# Altium footprint library Connector_Samtec_HSEC8.PcbLib: 133 footprints (part 8 of 9)
Each footprint in its own frame and in the unit in brackets; x right, y up, seen from the top. Pads: shape width x height; smd on the part's side, far side on the other; paste and mask are expansions set on the pad; w line width, h text height; cw(c..) or ccw(c..) is an arc to the next point about the centre after c.
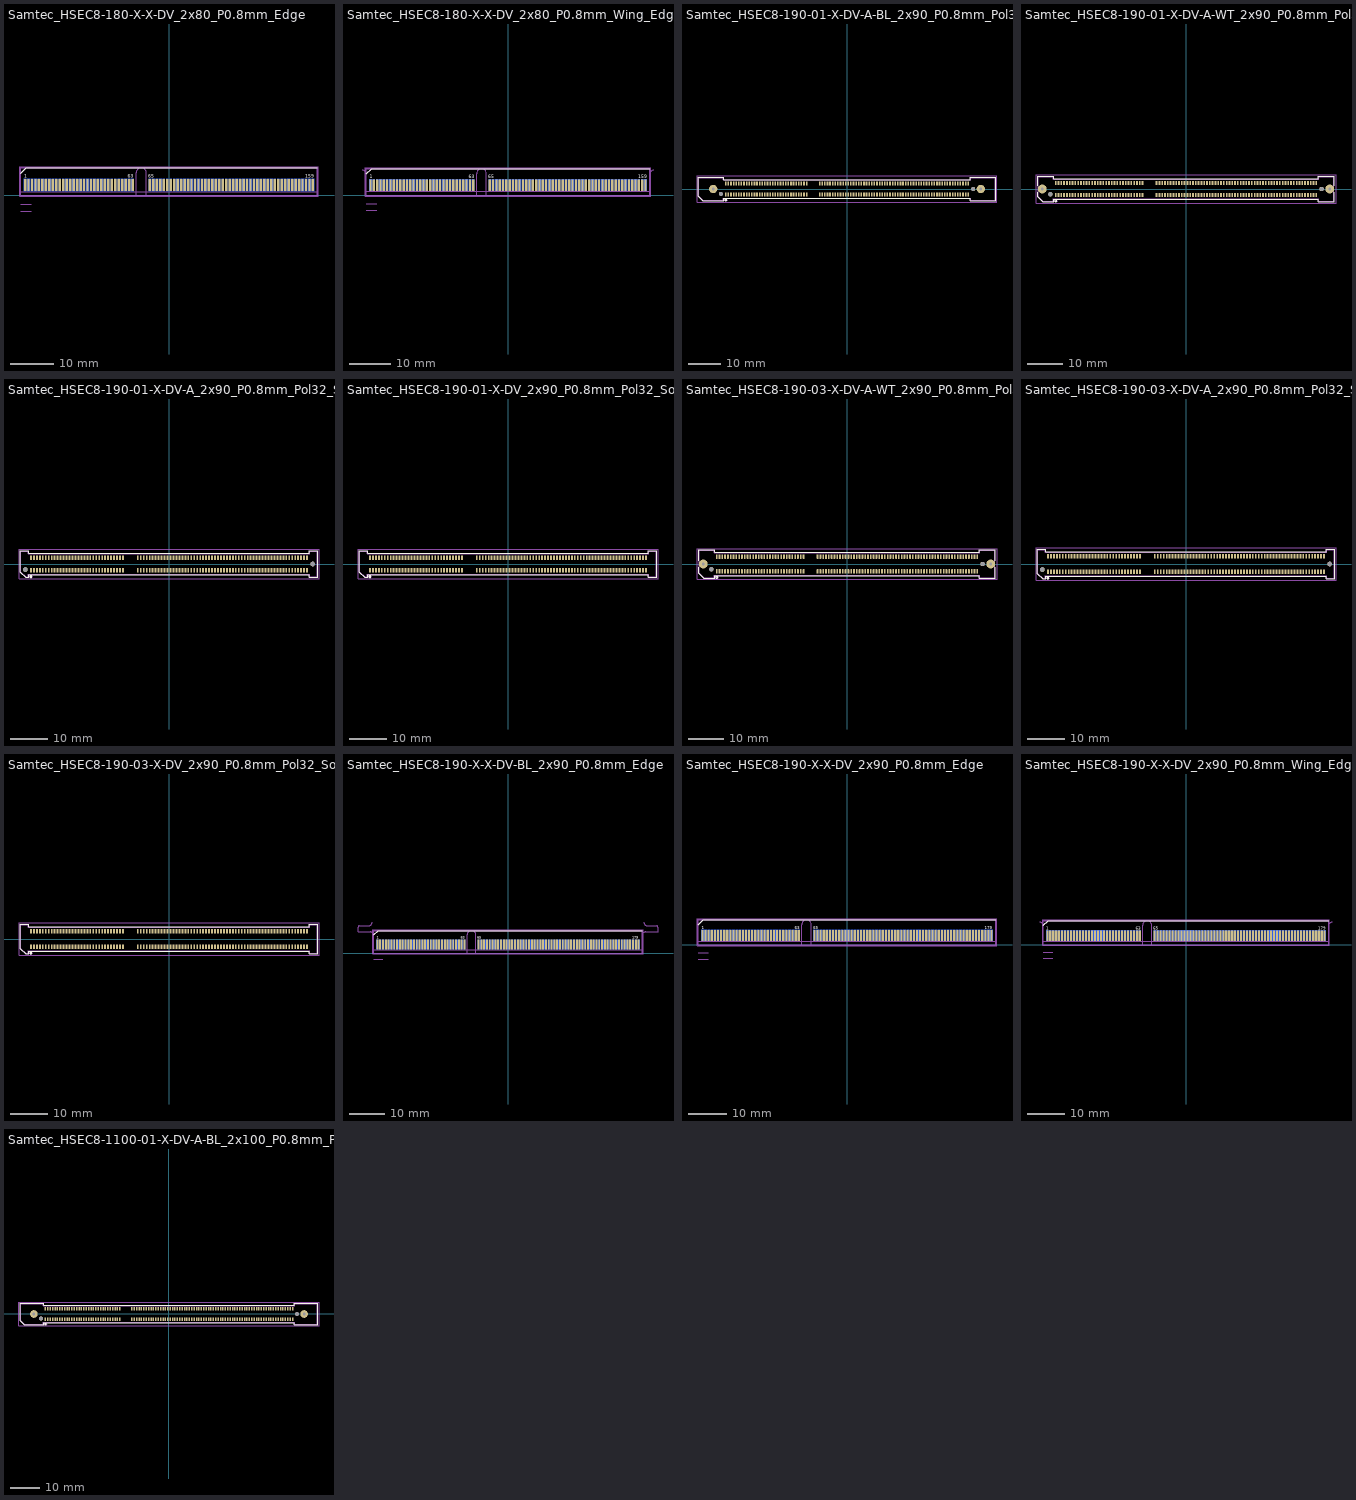
[diagram p7: the footprints below, top view; thin cyan lines are the x and y axes]

## Samtec_HSEC8-180-X-X-DV_2x80_P0.8mm_Edge [mm]
pads (160):
  rect 0.55x2.8 smd: 1(-33.2,2.4) 3(-32.4,2.4) 5(-31.6,2.4) 7(-30.8,2.4) 9(-30,2.4) 11(-29.2,2.4) 13(-28.4,2.4) 15(-27.6,2.4) 17(-26.8,2.4) 19(-26,2.4) 21(-25.2,2.4) 23(-24.4,2.4) 25(-23.6,2.4) 27(-22.8,2.4) 29(-22,2.4) 31(-21.2,2.4) 33(-20.4,2.4) 35(-19.6,2.4) 37(-18.8,2.4) 39(-18,2.4) 41(-17.2,2.4) 43(-16.4,2.4) 45(-15.6,2.4) 47(-14.8,2.4) 49(-14,2.4) 51(-13.2,2.4) 53(-12.4,2.4) 55(-11.6,2.4) 57(-10.8,2.4) 59(-10,2.4) 61(-9.2,2.4) 63(-8.4,2.4) 65(-4.4,2.4) 67(-3.6,2.4) 69(-2.8,2.4) 71(-2,2.4) 73(-1.2,2.4) 75(-0.4,2.4) 77(0.4,2.4) 79(1.2,2.4) 81(2,2.4) 83(2.8,2.4) 85(3.6,2.4) 87(4.4,2.4) 89(5.2,2.4) 91(6,2.4) 93(6.8,2.4) 95(7.6,2.4) 97(8.4,2.4) 99(9.2,2.4) 101(10,2.4) 103(10.8,2.4) 105(11.6,2.4) 107(12.4,2.4) 109(13.2,2.4) 111(14,2.4) 113(14.8,2.4) 115(15.6,2.4) 117(16.4,2.4) 119(17.2,2.4) 121(18,2.4) 123(18.8,2.4) 125(19.6,2.4) 127(20.4,2.4) 129(21.2,2.4) 131(22,2.4) 133(22.8,2.4) 135(23.6,2.4) 137(24.4,2.4) 139(25.2,2.4) 141(26,2.4) 143(26.8,2.4) 145(27.6,2.4) 147(28.4,2.4) 149(29.2,2.4) 151(30,2.4) 153(30.8,2.4) 155(31.6,2.4) 157(32.4,2.4) 159(33.2,2.4)
  rect 0.55x2.8 smd far side: 2(-33.2,2.4) 4(-32.4,2.4) 6(-31.6,2.4) 8(-30.8,2.4) 10(-30,2.4) 12(-29.2,2.4) 14(-28.4,2.4) 16(-27.6,2.4) 18(-26.8,2.4) 20(-26,2.4) 22(-25.2,2.4) 24(-24.4,2.4) 26(-23.6,2.4) 28(-22.8,2.4) 30(-22,2.4) 32(-21.2,2.4) 34(-20.4,2.4) 36(-19.6,2.4) 38(-18.8,2.4) 40(-18,2.4) 42(-17.2,2.4) 44(-16.4,2.4) 46(-15.6,2.4) 48(-14.8,2.4) 50(-14,2.4) 52(-13.2,2.4) 54(-12.4,2.4) 56(-11.6,2.4) 58(-10.8,2.4) 60(-10,2.4) 62(-9.2,2.4) 64(-8.4,2.4) 66(-4.4,2.4) 68(-3.6,2.4) 70(-2.8,2.4) 72(-2,2.4) 74(-1.2,2.4) 76(-0.4,2.4) 78(0.4,2.4) 80(1.2,2.4) 82(2,2.4) 84(2.8,2.4) 86(3.6,2.4) 88(4.4,2.4) 90(5.2,2.4) 92(6,2.4) 94(6.8,2.4) 96(7.6,2.4) 98(8.4,2.4) 100(9.2,2.4) 102(10,2.4) 104(10.8,2.4) 106(11.6,2.4) 108(12.4,2.4) 110(13.2,2.4) 112(14,2.4) 114(14.8,2.4) 116(15.6,2.4) 118(16.4,2.4) 120(17.2,2.4) 122(18,2.4) 124(18.8,2.4) 126(19.6,2.4) 128(20.4,2.4) 130(21.2,2.4) 132(22,2.4) 134(22.8,2.4) 136(23.6,2.4) 138(24.4,2.4) 140(25.2,2.4) 142(26,2.4) 144(26.8,2.4) 146(27.6,2.4) 148(28.4,2.4) 150(29.2,2.4) 152(30,2.4) 154(30.8,2.4) 156(31.6,2.4) 158(32.4,2.4) 160(33.2,2.4)
F.SilkS:
  lines w0.254: -34.225,5.13 -32.955,6.4 34.225,6.4
  text "159" at 31.459,4.025 h0.75
  text "65" at -4.739,4.025 h0.75
  text "63" at -9.489,4.025 h0.75
  text "1" at -33.439,4.025 h0.75
B.SilkS:
  lines w0.254: -34.225,6.4 34.225,6.4
  text "160" at 33.439,4.025 h0.75
  text "66" at -3.329,4.025 h0.75
  text "64" at -8.043,4.025 h0.75
  text "2" at -32.8,4.025 h0.75
Top Assembly:
  lines w0.254: -34.225,0.88 34.225,0.88 ; -34.225,0 34.225,0 34.225,6.4 -32.955,6.4 -34.225,5.13 -34.225,0
  text "'.Designator'" at -4.047,1.7 h1
Bottom Assembly:
  lines w0.254: -34.225,0.88 34.225,0.88 ; -34.225,0 34.225,0 34.225,6.4 -34.225,6.4 -34.225,0
Top Courtyard:
  lines w0.254: -34.48,-0.25 34.48,-0.25 34.48,6.65 -34.48,6.65 -34.48,-0.25
Bottom Courtyard:
  lines w0.254: -34.48,-0.25 34.48,-0.25 34.48,6.65 -34.48,6.65 -34.48,-0.25
Top Designator:
  text ".Designator" at -7.618,0.475 h1.52
Board Shape:
  lines w0.254: -34.225,5 -34.225,0 -7.595,0 -7.595,5.2 cw(c-6.395,5.2) -5.195,5.2 -5.195,0 34.225,0 34.225,5
Cmts.User:
  lines w0.254: -34.225,-3.69 -31.725,-3.69 ; -34.225,-2.05 -31.725,-2.05
  text "mated PCB distance: 3.69 mm (max)" at -31.63,-4.411 h0.75
  text "mated PCB distance: 2.05 mm (min)" at -31.63,-2.771 h0.75
  text "Chamfer 30 degree 0.45 mm" at -7.868,-0.21 h0.75

## Samtec_HSEC8-180-X-X-DV_2x80_P0.8mm_Wing_Edge [mm]
pads (160):
  rect 0.55x2.8 smd: 1(-33.2,2.4) 3(-32.4,2.4) 5(-31.6,2.4) 7(-30.8,2.4) 9(-30,2.4) 11(-29.2,2.4) 13(-28.4,2.4) 15(-27.6,2.4) 17(-26.8,2.4) 19(-26,2.4) 21(-25.2,2.4) 23(-24.4,2.4) 25(-23.6,2.4) 27(-22.8,2.4) 29(-22,2.4) 31(-21.2,2.4) 33(-20.4,2.4) 35(-19.6,2.4) 37(-18.8,2.4) 39(-18,2.4) 41(-17.2,2.4) 43(-16.4,2.4) 45(-15.6,2.4) 47(-14.8,2.4) 49(-14,2.4) 51(-13.2,2.4) 53(-12.4,2.4) 55(-11.6,2.4) 57(-10.8,2.4) 59(-10,2.4) 61(-9.2,2.4) 63(-8.4,2.4) 65(-4.4,2.4) 67(-3.6,2.4) 69(-2.8,2.4) 71(-2,2.4) 73(-1.2,2.4) 75(-0.4,2.4) 77(0.4,2.4) 79(1.2,2.4) 81(2,2.4) 83(2.8,2.4) 85(3.6,2.4) 87(4.4,2.4) 89(5.2,2.4) 91(6,2.4) 93(6.8,2.4) 95(7.6,2.4) 97(8.4,2.4) 99(9.2,2.4) 101(10,2.4) 103(10.8,2.4) 105(11.6,2.4) 107(12.4,2.4) 109(13.2,2.4) 111(14,2.4) 113(14.8,2.4) 115(15.6,2.4) 117(16.4,2.4) 119(17.2,2.4) 121(18,2.4) 123(18.8,2.4) 125(19.6,2.4) 127(20.4,2.4) 129(21.2,2.4) 131(22,2.4) 133(22.8,2.4) 135(23.6,2.4) 137(24.4,2.4) 139(25.2,2.4) 141(26,2.4) 143(26.8,2.4) 145(27.6,2.4) 147(28.4,2.4) 149(29.2,2.4) 151(30,2.4) 153(30.8,2.4) 155(31.6,2.4) 157(32.4,2.4) 159(33.2,2.4)
  rect 0.55x2.8 smd far side: 2(-33.2,2.4) 4(-32.4,2.4) 6(-31.6,2.4) 8(-30.8,2.4) 10(-30,2.4) 12(-29.2,2.4) 14(-28.4,2.4) 16(-27.6,2.4) 18(-26.8,2.4) 20(-26,2.4) 22(-25.2,2.4) 24(-24.4,2.4) 26(-23.6,2.4) 28(-22.8,2.4) 30(-22,2.4) 32(-21.2,2.4) 34(-20.4,2.4) 36(-19.6,2.4) 38(-18.8,2.4) 40(-18,2.4) 42(-17.2,2.4) 44(-16.4,2.4) 46(-15.6,2.4) 48(-14.8,2.4) 50(-14,2.4) 52(-13.2,2.4) 54(-12.4,2.4) 56(-11.6,2.4) 58(-10.8,2.4) 60(-10,2.4) 62(-9.2,2.4) 64(-8.4,2.4) 66(-4.4,2.4) 68(-3.6,2.4) 70(-2.8,2.4) 72(-2,2.4) 74(-1.2,2.4) 76(-0.4,2.4) 78(0.4,2.4) 80(1.2,2.4) 82(2,2.4) 84(2.8,2.4) 86(3.6,2.4) 88(4.4,2.4) 90(5.2,2.4) 92(6,2.4) 94(6.8,2.4) 96(7.6,2.4) 98(8.4,2.4) 100(9.2,2.4) 102(10,2.4) 104(10.8,2.4) 106(11.6,2.4) 108(12.4,2.4) 110(13.2,2.4) 112(14,2.4) 114(14.8,2.4) 116(15.6,2.4) 118(16.4,2.4) 120(17.2,2.4) 122(18,2.4) 124(18.8,2.4) 126(19.6,2.4) 128(20.4,2.4) 130(21.2,2.4) 132(22,2.4) 134(22.8,2.4) 136(23.6,2.4) 138(24.4,2.4) 140(25.2,2.4) 142(26,2.4) 144(26.8,2.4) 146(27.6,2.4) 148(28.4,2.4) 150(29.2,2.4) 152(30,2.4) 154(30.8,2.4) 156(31.6,2.4) 158(32.4,2.4) 160(33.2,2.4)
F.SilkS:
  lines w0.254: -34.225,5.13 -32.955,6.4 34.225,6.4
  text "159" at 31.459,4.025 h0.75
  text "65" at -4.739,4.025 h0.75
  text "63" at -9.489,4.025 h0.75
  text "1" at -33.439,4.025 h0.75
B.SilkS:
  lines w0.254: -34.225,6.4 34.225,6.4
  text "160" at 33.439,4.025 h0.75
  text "66" at -3.329,4.025 h0.75
  text "64" at -8.043,4.025 h0.75
  text "2" at -32.8,4.025 h0.75
Top Assembly:
  lines w0.254: -34.225,0.88 34.225,0.88 ; -34.225,0 34.225,0 34.225,6.4 -32.955,6.4 -34.225,5.13 -34.225,0
  text "'.Designator'" at -4.047,1.7 h1
Bottom Assembly:
  lines w0.254: -34.225,0.88 34.225,0.88 ; -34.225,0 34.225,0 34.225,6.4 -34.225,6.4 -34.225,0
Top Courtyard:
  lines w0.254: -34.48,-0.25 34.48,-0.25 34.48,6.65 -34.48,6.65 -34.48,-0.25
Bottom Courtyard:
  lines w0.254: -34.48,-0.25 34.48,-0.25 34.48,6.65 -34.48,6.65 -34.48,-0.25
Top Designator:
  text ".Designator" at -7.618,0.475 h1.52
Board Shape:
  lines w0.254: -35.225,6 cw(c-35.225,5) -34.225,5 -34.225,0 -7.595,0 -7.595,5.2 cw(c-6.395,5.2) -5.195,5.2 -5.195,0 34.225,0 34.225,5 cw(c35.225,5) 35.225,6
Cmts.User:
  lines w0.254: -34.225,-3.69 -31.725,-3.69 ; -34.225,-2.05 -31.725,-2.05
  text "mated PCB distance: 3.69 mm (max)" at -31.63,-4.411 h0.75
  text "mated PCB distance: 2.05 mm (min)" at -31.63,-2.771 h0.75
  text "Chamfer 30 degree 0.45 mm" at -7.868,-0.21 h0.75

## Samtec_HSEC8-190-01-X-DV-A-BL_2x90_P0.8mm_Pol32_Socket_WeldTabs_BoardLocks [mm]
pads (184):
  rrect25% 0.5x1.2 smd: 1(-37.2,-1.7) 2(-37.2,1.7) 3(-36.4,-1.7) 4(-36.4,1.7) 5(-35.6,-1.7) 6(-35.6,1.7) 7(-34.8,-1.7) 8(-34.8,1.7) 9(-34,-1.7) 10(-34,1.7) 11(-33.2,-1.7) 12(-33.2,1.7) 13(-32.4,-1.7) 14(-32.4,1.7) 15(-31.6,-1.7) 16(-31.6,1.7) 17(-30.8,-1.7) 18(-30.8,1.7) 19(-30,-1.7) 20(-30,1.7) 21(-29.2,-1.7) 22(-29.2,1.7) 23(-28.4,-1.7) 24(-28.4,1.7) 25(-27.6,-1.7) 26(-27.6,1.7) 27(-26.8,-1.7) 28(-26.8,1.7) 29(-26,-1.7) 30(-26,1.7) 31(-25.2,-1.7) 32(-25.2,1.7) 33(-24.4,-1.7) 34(-24.4,1.7) 35(-23.6,-1.7) 36(-23.6,1.7) 37(-22.8,-1.7) 38(-22.8,1.7) 39(-22,-1.7) 40(-22,1.7) 41(-21.2,-1.7) 42(-21.2,1.7) 43(-20.4,-1.7) 44(-20.4,1.7) 45(-19.6,-1.7) 46(-19.6,1.7) 47(-18.8,-1.7) 48(-18.8,1.7) 49(-18,-1.7) 50(-18,1.7) 51(-17.2,-1.7) 52(-17.2,1.7) 53(-16.4,-1.7) 54(-16.4,1.7) 55(-15.6,-1.7) 56(-15.6,1.7) 57(-14.8,-1.7) 58(-14.8,1.7) 59(-14,-1.7) 60(-14,1.7) 61(-13.2,-1.7) 62(-13.2,1.7) 63(-12.4,-1.7) 64(-12.4,1.7) 65(-8.4,-1.7) 66(-8.4,1.7) 67(-7.6,-1.7) 68(-7.6,1.7) 69(-6.8,-1.7) 70(-6.8,1.7) 71(-6,-1.7) 72(-6,1.7) 73(-5.2,-1.7) 74(-5.2,1.7) 75(-4.4,-1.7) 76(-4.4,1.7) 77(-3.6,-1.7) 78(-3.6,1.7) 79(-2.8,-1.7) 80(-2.8,1.7) 81(-2,-1.7) 82(-2,1.7) 83(-1.2,-1.7) 84(-1.2,1.7) 85(-0.4,-1.7) 86(-0.4,1.7) 87(0.4,-1.7) 88(0.4,1.7) 89(1.2,-1.7) 90(1.2,1.7) 91(2,-1.7) 92(2,1.7) 93(2.8,-1.7) 94(2.8,1.7) 95(3.6,-1.7) 96(3.6,1.7) 97(4.4,-1.7) 98(4.4,1.7) 99(5.2,-1.7) 100(5.2,1.7) 101(6,-1.7) 102(6,1.7) 103(6.8,-1.7) 104(6.8,1.7) 105(7.6,-1.7) 106(7.6,1.7) 107(8.4,-1.7) 108(8.4,1.7) 109(9.2,-1.7) 110(9.2,1.7) 111(10,-1.7) 112(10,1.7) 113(10.8,-1.7) 114(10.8,1.7) 115(11.6,-1.7) 116(11.6,1.7) 117(12.4,-1.7) 118(12.4,1.7) 119(13.2,-1.7) 120(13.2,1.7) 121(14,-1.7) 122(14,1.7) 123(14.8,-1.7) 124(14.8,1.7) 125(15.6,-1.7) 126(15.6,1.7) 127(16.4,-1.7) 128(16.4,1.7) 129(17.2,-1.7) 130(17.2,1.7) 131(18,-1.7) 132(18,1.7) 133(18.8,-1.7) 134(18.8,1.7) 135(19.6,-1.7) 136(19.6,1.7) 137(20.4,-1.7) 138(20.4,1.7) 139(21.2,-1.7) 140(21.2,1.7) 141(22,-1.7) 142(22,1.7) 143(22.8,-1.7) 144(22.8,1.7) 145(23.6,-1.7) 146(23.6,1.7) 147(24.4,-1.7) 148(24.4,1.7) 149(25.2,-1.7) 150(25.2,1.7) 151(26,-1.7) 152(26,1.7) 153(26.8,-1.7) 154(26.8,1.7) 155(27.6,-1.7) 156(27.6,1.7) 157(28.4,-1.7) 158(28.4,1.7) 159(29.2,-1.7) 160(29.2,1.7) 161(30,-1.7) 162(30,1.7) 163(30.8,-1.7) 164(30.8,1.7) 165(31.6,-1.7) 166(31.6,1.7) 167(32.4,-1.7) 168(32.4,1.7) 169(33.2,-1.7) 170(33.2,1.7) 171(34,-1.7) 172(34,1.7) 173(34.8,-1.7) 174(34.8,1.7) 175(35.6,-1.7) 176(35.6,1.7) 177(36.4,-1.7) 178(36.4,1.7) 179(37.2,-1.7) 180(37.2,1.7)
  round 2.54 hole 0.84: Un1(-41.05,0) Un4(41.05,0)
  round 1.27 hole 1.27: Un2(-38.7,-1.5) Un3(38.7,0)
F.SilkS:
  circle w0.254: c-37.2,-3.4 r0.25
  lines w0.254: -45.635,-2.246 -44.271,-3.61 -37.79,-3.61 -37.79,-2.91 37.79,-2.91 37.79,-3.61 45.635,-3.61 45.635,3.61 37.79,3.61 37.79,2.91 -37.79,2.91 -37.79,3.61 -45.635,3.61 -45.635,-2.246
Top Assembly:
  lines w0.254: -45.525,-2.2 -44.225,-3.5 -37.9,-3.5 -37.9,-2.8 37.9,-2.8 37.9,-3.5 45.525,-3.5 45.525,3.5 37.9,3.5 37.9,2.8 -37.9,2.8 -37.9,3.5 -45.525,3.5 -45.525,-2.2 ; -37.6,-3.5 -36.8,-3.5 -37.2,-2.86 -37.6,-3.5
  text "'.Designator'" at -4.047,-0.84 h1
Top Courtyard:
  lines w0.254: -46.03,-4 46.03,-4 46.03,4 -46.03,4 -46.03,-4
Top Designator:
  text ".Designator" at -7.618,-0.508 h1.52

## Samtec_HSEC8-190-01-X-DV-A-WT_2x90_P0.8mm_Pol32_Socket_WeldTabs [mm]
pads (184):
  rrect25% 0.5x1.2 smd: 1(-37.2,-1.7) 2(-37.2,1.7) 3(-36.4,-1.7) 4(-36.4,1.7) 5(-35.6,-1.7) 6(-35.6,1.7) 7(-34.8,-1.7) 8(-34.8,1.7) 9(-34,-1.7) 10(-34,1.7) 11(-33.2,-1.7) 12(-33.2,1.7) 13(-32.4,-1.7) 14(-32.4,1.7) 15(-31.6,-1.7) 16(-31.6,1.7) 17(-30.8,-1.7) 18(-30.8,1.7) 19(-30,-1.7) 20(-30,1.7) 21(-29.2,-1.7) 22(-29.2,1.7) 23(-28.4,-1.7) 24(-28.4,1.7) 25(-27.6,-1.7) 26(-27.6,1.7) 27(-26.8,-1.7) 28(-26.8,1.7) 29(-26,-1.7) 30(-26,1.7) 31(-25.2,-1.7) 32(-25.2,1.7) 33(-24.4,-1.7) 34(-24.4,1.7) 35(-23.6,-1.7) 36(-23.6,1.7) 37(-22.8,-1.7) 38(-22.8,1.7) 39(-22,-1.7) 40(-22,1.7) 41(-21.2,-1.7) 42(-21.2,1.7) 43(-20.4,-1.7) 44(-20.4,1.7) 45(-19.6,-1.7) 46(-19.6,1.7) 47(-18.8,-1.7) 48(-18.8,1.7) 49(-18,-1.7) 50(-18,1.7) 51(-17.2,-1.7) 52(-17.2,1.7) 53(-16.4,-1.7) 54(-16.4,1.7) 55(-15.6,-1.7) 56(-15.6,1.7) 57(-14.8,-1.7) 58(-14.8,1.7) 59(-14,-1.7) 60(-14,1.7) 61(-13.2,-1.7) 62(-13.2,1.7) 63(-12.4,-1.7) 64(-12.4,1.7) 65(-8.4,-1.7) 66(-8.4,1.7) 67(-7.6,-1.7) 68(-7.6,1.7) 69(-6.8,-1.7) 70(-6.8,1.7) 71(-6,-1.7) 72(-6,1.7) 73(-5.2,-1.7) 74(-5.2,1.7) 75(-4.4,-1.7) 76(-4.4,1.7) 77(-3.6,-1.7) 78(-3.6,1.7) 79(-2.8,-1.7) 80(-2.8,1.7) 81(-2,-1.7) 82(-2,1.7) 83(-1.2,-1.7) 84(-1.2,1.7) 85(-0.4,-1.7) 86(-0.4,1.7) 87(0.4,-1.7) 88(0.4,1.7) 89(1.2,-1.7) 90(1.2,1.7) 91(2,-1.7) 92(2,1.7) 93(2.8,-1.7) 94(2.8,1.7) 95(3.6,-1.7) 96(3.6,1.7) 97(4.4,-1.7) 98(4.4,1.7) 99(5.2,-1.7) 100(5.2,1.7) 101(6,-1.7) 102(6,1.7) 103(6.8,-1.7) 104(6.8,1.7) 105(7.6,-1.7) 106(7.6,1.7) 107(8.4,-1.7) 108(8.4,1.7) 109(9.2,-1.7) 110(9.2,1.7) 111(10,-1.7) 112(10,1.7) 113(10.8,-1.7) 114(10.8,1.7) 115(11.6,-1.7) 116(11.6,1.7) 117(12.4,-1.7) 118(12.4,1.7) 119(13.2,-1.7) 120(13.2,1.7) 121(14,-1.7) 122(14,1.7) 123(14.8,-1.7) 124(14.8,1.7) 125(15.6,-1.7) 126(15.6,1.7) 127(16.4,-1.7) 128(16.4,1.7) 129(17.2,-1.7) 130(17.2,1.7) 131(18,-1.7) 132(18,1.7) 133(18.8,-1.7) 134(18.8,1.7) 135(19.6,-1.7) 136(19.6,1.7) 137(20.4,-1.7) 138(20.4,1.7) 139(21.2,-1.7) 140(21.2,1.7) 141(22,-1.7) 142(22,1.7) 143(22.8,-1.7) 144(22.8,1.7) 145(23.6,-1.7) 146(23.6,1.7) 147(24.4,-1.7) 148(24.4,1.7) 149(25.2,-1.7) 150(25.2,1.7) 151(26,-1.7) 152(26,1.7) 153(26.8,-1.7) 154(26.8,1.7) 155(27.6,-1.7) 156(27.6,1.7) 157(28.4,-1.7) 158(28.4,1.7) 159(29.2,-1.7) 160(29.2,1.7) 161(30,-1.7) 162(30,1.7) 163(30.8,-1.7) 164(30.8,1.7) 165(31.6,-1.7) 166(31.6,1.7) 167(32.4,-1.7) 168(32.4,1.7) 169(33.2,-1.7) 170(33.2,1.7) 171(34,-1.7) 172(34,1.7) 173(34.8,-1.7) 174(34.8,1.7) 175(35.6,-1.7) 176(35.6,1.7) 177(36.4,-1.7) 178(36.4,1.7) 179(37.2,-1.7) 180(37.2,1.7)
  round 2.54 hole 0.84: Un1(-41.05,0) Un4(41.05,0)
  round 1.27 hole 1.27: Un2(-38.7,-1.5) Un3(38.7,0)
F.SilkS:
  circle w0.254: c-37.2,-3.4 r0.25
  lines w0.254: -42.31,-0.868 -42.31,-2.246 -40.946,-3.61 -37.79,-3.61 -37.79,-2.91 37.79,-2.91 37.79,-3.61 42.31,-3.61 42.31,-0.868 ; -42.31,0.868 -42.31,3.61 -37.79,3.61 -37.79,2.91 37.79,2.91 37.79,3.61 42.31,3.61 42.31,0.868
Top Assembly:
  lines w0.254: -42.2,-2.2 -40.9,-3.5 -37.9,-3.5 -37.9,-2.8 37.9,-2.8 37.9,-3.5 42.2,-3.5 42.2,3.5 37.9,3.5 37.9,2.8 -37.9,2.8 -37.9,3.5 -42.2,3.5 -42.2,-2.2 ; -37.6,-3.5 -36.8,-3.5 -37.2,-2.86 -37.6,-3.5
  text "'.Designator'" at -4.047,-0.84 h1
Top Courtyard:
  lines w0.254: -42.83,-4 42.83,-4 42.83,4 -42.83,4 -42.83,-4
Top Designator:
  text ".Designator" at -7.618,-0.508 h1.52

## Samtec_HSEC8-190-01-X-DV-A_2x90_P0.8mm_Pol32_Socket_AlignmentPins [mm]
pads (182):
  rrect25% 0.5x1.2 smd: 1(-37.2,-1.7) 2(-37.2,1.7) 3(-36.4,-1.7) 4(-36.4,1.7) 5(-35.6,-1.7) 6(-35.6,1.7) 7(-34.8,-1.7) 8(-34.8,1.7) 9(-34,-1.7) 10(-34,1.7) 11(-33.2,-1.7) 12(-33.2,1.7) 13(-32.4,-1.7) 14(-32.4,1.7) 15(-31.6,-1.7) 16(-31.6,1.7) 17(-30.8,-1.7) 18(-30.8,1.7) 19(-30,-1.7) 20(-30,1.7) 21(-29.2,-1.7) 22(-29.2,1.7) 23(-28.4,-1.7) 24(-28.4,1.7) 25(-27.6,-1.7) 26(-27.6,1.7) 27(-26.8,-1.7) 28(-26.8,1.7) 29(-26,-1.7) 30(-26,1.7) 31(-25.2,-1.7) 32(-25.2,1.7) 33(-24.4,-1.7) 34(-24.4,1.7) 35(-23.6,-1.7) 36(-23.6,1.7) 37(-22.8,-1.7) 38(-22.8,1.7) 39(-22,-1.7) 40(-22,1.7) 41(-21.2,-1.7) 42(-21.2,1.7) 43(-20.4,-1.7) 44(-20.4,1.7) 45(-19.6,-1.7) 46(-19.6,1.7) 47(-18.8,-1.7) 48(-18.8,1.7) 49(-18,-1.7) 50(-18,1.7) 51(-17.2,-1.7) 52(-17.2,1.7) 53(-16.4,-1.7) 54(-16.4,1.7) 55(-15.6,-1.7) 56(-15.6,1.7) 57(-14.8,-1.7) 58(-14.8,1.7) 59(-14,-1.7) 60(-14,1.7) 61(-13.2,-1.7) 62(-13.2,1.7) 63(-12.4,-1.7) 64(-12.4,1.7) 65(-8.4,-1.7) 66(-8.4,1.7) 67(-7.6,-1.7) 68(-7.6,1.7) 69(-6.8,-1.7) 70(-6.8,1.7) 71(-6,-1.7) 72(-6,1.7) 73(-5.2,-1.7) 74(-5.2,1.7) 75(-4.4,-1.7) 76(-4.4,1.7) 77(-3.6,-1.7) 78(-3.6,1.7) 79(-2.8,-1.7) 80(-2.8,1.7) 81(-2,-1.7) 82(-2,1.7) 83(-1.2,-1.7) 84(-1.2,1.7) 85(-0.4,-1.7) 86(-0.4,1.7) 87(0.4,-1.7) 88(0.4,1.7) 89(1.2,-1.7) 90(1.2,1.7) 91(2,-1.7) 92(2,1.7) 93(2.8,-1.7) 94(2.8,1.7) 95(3.6,-1.7) 96(3.6,1.7) 97(4.4,-1.7) 98(4.4,1.7) 99(5.2,-1.7) 100(5.2,1.7) 101(6,-1.7) 102(6,1.7) 103(6.8,-1.7) 104(6.8,1.7) 105(7.6,-1.7) 106(7.6,1.7) 107(8.4,-1.7) 108(8.4,1.7) 109(9.2,-1.7) 110(9.2,1.7) 111(10,-1.7) 112(10,1.7) 113(10.8,-1.7) 114(10.8,1.7) 115(11.6,-1.7) 116(11.6,1.7) 117(12.4,-1.7) 118(12.4,1.7) 119(13.2,-1.7) 120(13.2,1.7) 121(14,-1.7) 122(14,1.7) 123(14.8,-1.7) 124(14.8,1.7) 125(15.6,-1.7) 126(15.6,1.7) 127(16.4,-1.7) 128(16.4,1.7) 129(17.2,-1.7) 130(17.2,1.7) 131(18,-1.7) 132(18,1.7) 133(18.8,-1.7) 134(18.8,1.7) 135(19.6,-1.7) 136(19.6,1.7) 137(20.4,-1.7) 138(20.4,1.7) 139(21.2,-1.7) 140(21.2,1.7) 141(22,-1.7) 142(22,1.7) 143(22.8,-1.7) 144(22.8,1.7) 145(23.6,-1.7) 146(23.6,1.7) 147(24.4,-1.7) 148(24.4,1.7) 149(25.2,-1.7) 150(25.2,1.7) 151(26,-1.7) 152(26,1.7) 153(26.8,-1.7) 154(26.8,1.7) 155(27.6,-1.7) 156(27.6,1.7) 157(28.4,-1.7) 158(28.4,1.7) 159(29.2,-1.7) 160(29.2,1.7) 161(30,-1.7) 162(30,1.7) 163(30.8,-1.7) 164(30.8,1.7) 165(31.6,-1.7) 166(31.6,1.7) 167(32.4,-1.7) 168(32.4,1.7) 169(33.2,-1.7) 170(33.2,1.7) 171(34,-1.7) 172(34,1.7) 173(34.8,-1.7) 174(34.8,1.7) 175(35.6,-1.7) 176(35.6,1.7) 177(36.4,-1.7) 178(36.4,1.7) 179(37.2,-1.7) 180(37.2,1.7)
  round 1.27 hole 1.27: Un1(-38.7,-1.5) Un2(38.7,0)
F.SilkS:
  circle w0.254: c-37.2,-3.4 r0.25
  lines w0.254: -40.01,-2.246 -38.646,-3.61 -37.79,-3.61 -37.79,-2.91 37.79,-2.91 37.79,-3.61 40.01,-3.61 40.01,3.61 37.79,3.61 37.79,2.91 -37.79,2.91 -37.79,3.61 -40.01,3.61 -40.01,-2.246
Top Assembly:
  lines w0.254: -39.9,-2.2 -38.6,-3.5 -37.9,-3.5 -37.9,-2.8 37.9,-2.8 37.9,-3.5 39.9,-3.5 39.9,3.5 37.9,3.5 37.9,2.8 -37.9,2.8 -37.9,3.5 -39.9,3.5 -39.9,-2.2 ; -37.6,-3.5 -36.8,-3.5 -37.2,-2.86 -37.6,-3.5
  text "'.Designator'" at -4.047,-0.84 h1
Top Courtyard:
  lines w0.254: -40.41,-4 40.41,-4 40.41,4 -40.41,4 -40.41,-4
Top Designator:
  text ".Designator" at -7.618,-0.508 h1.52

## Samtec_HSEC8-190-01-X-DV_2x90_P0.8mm_Pol32_Socket [mm]
pads (180):
  rrect25% 0.5x1.2 smd: 1(-37.2,-1.7) 2(-37.2,1.7) 3(-36.4,-1.7) 4(-36.4,1.7) 5(-35.6,-1.7) 6(-35.6,1.7) 7(-34.8,-1.7) 8(-34.8,1.7) 9(-34,-1.7) 10(-34,1.7) 11(-33.2,-1.7) 12(-33.2,1.7) 13(-32.4,-1.7) 14(-32.4,1.7) 15(-31.6,-1.7) 16(-31.6,1.7) 17(-30.8,-1.7) 18(-30.8,1.7) 19(-30,-1.7) 20(-30,1.7) 21(-29.2,-1.7) 22(-29.2,1.7) 23(-28.4,-1.7) 24(-28.4,1.7) 25(-27.6,-1.7) 26(-27.6,1.7) 27(-26.8,-1.7) 28(-26.8,1.7) 29(-26,-1.7) 30(-26,1.7) 31(-25.2,-1.7) 32(-25.2,1.7) 33(-24.4,-1.7) 34(-24.4,1.7) 35(-23.6,-1.7) 36(-23.6,1.7) 37(-22.8,-1.7) 38(-22.8,1.7) 39(-22,-1.7) 40(-22,1.7) 41(-21.2,-1.7) 42(-21.2,1.7) 43(-20.4,-1.7) 44(-20.4,1.7) 45(-19.6,-1.7) 46(-19.6,1.7) 47(-18.8,-1.7) 48(-18.8,1.7) 49(-18,-1.7) 50(-18,1.7) 51(-17.2,-1.7) 52(-17.2,1.7) 53(-16.4,-1.7) 54(-16.4,1.7) 55(-15.6,-1.7) 56(-15.6,1.7) 57(-14.8,-1.7) 58(-14.8,1.7) 59(-14,-1.7) 60(-14,1.7) 61(-13.2,-1.7) 62(-13.2,1.7) 63(-12.4,-1.7) 64(-12.4,1.7) 65(-8.4,-1.7) 66(-8.4,1.7) 67(-7.6,-1.7) 68(-7.6,1.7) 69(-6.8,-1.7) 70(-6.8,1.7) 71(-6,-1.7) 72(-6,1.7) 73(-5.2,-1.7) 74(-5.2,1.7) 75(-4.4,-1.7) 76(-4.4,1.7) 77(-3.6,-1.7) 78(-3.6,1.7) 79(-2.8,-1.7) 80(-2.8,1.7) 81(-2,-1.7) 82(-2,1.7) 83(-1.2,-1.7) 84(-1.2,1.7) 85(-0.4,-1.7) 86(-0.4,1.7) 87(0.4,-1.7) 88(0.4,1.7) 89(1.2,-1.7) 90(1.2,1.7) 91(2,-1.7) 92(2,1.7) 93(2.8,-1.7) 94(2.8,1.7) 95(3.6,-1.7) 96(3.6,1.7) 97(4.4,-1.7) 98(4.4,1.7) 99(5.2,-1.7) 100(5.2,1.7) 101(6,-1.7) 102(6,1.7) 103(6.8,-1.7) 104(6.8,1.7) 105(7.6,-1.7) 106(7.6,1.7) 107(8.4,-1.7) 108(8.4,1.7) 109(9.2,-1.7) 110(9.2,1.7) 111(10,-1.7) 112(10,1.7) 113(10.8,-1.7) 114(10.8,1.7) 115(11.6,-1.7) 116(11.6,1.7) 117(12.4,-1.7) 118(12.4,1.7) 119(13.2,-1.7) 120(13.2,1.7) 121(14,-1.7) 122(14,1.7) 123(14.8,-1.7) 124(14.8,1.7) 125(15.6,-1.7) 126(15.6,1.7) 127(16.4,-1.7) 128(16.4,1.7) 129(17.2,-1.7) 130(17.2,1.7) 131(18,-1.7) 132(18,1.7) 133(18.8,-1.7) 134(18.8,1.7) 135(19.6,-1.7) 136(19.6,1.7) 137(20.4,-1.7) 138(20.4,1.7) 139(21.2,-1.7) 140(21.2,1.7) 141(22,-1.7) 142(22,1.7) 143(22.8,-1.7) 144(22.8,1.7) 145(23.6,-1.7) 146(23.6,1.7) 147(24.4,-1.7) 148(24.4,1.7) 149(25.2,-1.7) 150(25.2,1.7) 151(26,-1.7) 152(26,1.7) 153(26.8,-1.7) 154(26.8,1.7) 155(27.6,-1.7) 156(27.6,1.7) 157(28.4,-1.7) 158(28.4,1.7) 159(29.2,-1.7) 160(29.2,1.7) 161(30,-1.7) 162(30,1.7) 163(30.8,-1.7) 164(30.8,1.7) 165(31.6,-1.7) 166(31.6,1.7) 167(32.4,-1.7) 168(32.4,1.7) 169(33.2,-1.7) 170(33.2,1.7) 171(34,-1.7) 172(34,1.7) 173(34.8,-1.7) 174(34.8,1.7) 175(35.6,-1.7) 176(35.6,1.7) 177(36.4,-1.7) 178(36.4,1.7) 179(37.2,-1.7) 180(37.2,1.7)
F.SilkS:
  circle w0.254: c-37.2,-3.4 r0.25
  lines w0.254: -40.01,-2.246 -38.646,-3.61 -37.79,-3.61 -37.79,-2.91 37.79,-2.91 37.79,-3.61 40.01,-3.61 40.01,3.61 37.79,3.61 37.79,2.91 -37.79,2.91 -37.79,3.61 -40.01,3.61 -40.01,-2.246
Top Assembly:
  lines w0.254: -39.9,-2.2 -38.6,-3.5 -37.9,-3.5 -37.9,-2.8 37.9,-2.8 37.9,-3.5 39.9,-3.5 39.9,3.5 37.9,3.5 37.9,2.8 -37.9,2.8 -37.9,3.5 -39.9,3.5 -39.9,-2.2 ; -37.6,-3.5 -36.8,-3.5 -37.2,-2.86 -37.6,-3.5
  text "'.Designator'" at -4.047,-0.84 h1
Top Courtyard:
  lines w0.254: -40.41,-4 40.41,-4 40.41,4 -40.41,4 -40.41,-4
Top Designator:
  text ".Designator" at -7.618,-0.508 h1.52

## Samtec_HSEC8-190-03-X-DV-A-WT_2x90_P0.8mm_Pol32_Socket_WeldTabs [mm]
pads (184):
  rrect25% 0.5x1.2 smd: 1(-37.2,-2.095) 2(-37.2,2.095) 3(-36.4,-2.095) 4(-36.4,2.095) 5(-35.6,-2.095) 6(-35.6,2.095) 7(-34.8,-2.095) 8(-34.8,2.095) 9(-34,-2.095) 10(-34,2.095) 11(-33.2,-2.095) 12(-33.2,2.095) 13(-32.4,-2.095) 14(-32.4,2.095) 15(-31.6,-2.095) 16(-31.6,2.095) 17(-30.8,-2.095) 18(-30.8,2.095) 19(-30,-2.095) 20(-30,2.095) 21(-29.2,-2.095) 22(-29.2,2.095) 23(-28.4,-2.095) 24(-28.4,2.095) 25(-27.6,-2.095) 26(-27.6,2.095) 27(-26.8,-2.095) 28(-26.8,2.095) 29(-26,-2.095) 30(-26,2.095) 31(-25.2,-2.095) 32(-25.2,2.095) 33(-24.4,-2.095) 34(-24.4,2.095) 35(-23.6,-2.095) 36(-23.6,2.095) 37(-22.8,-2.095) 38(-22.8,2.095) 39(-22,-2.095) 40(-22,2.095) 41(-21.2,-2.095) 42(-21.2,2.095) 43(-20.4,-2.095) 44(-20.4,2.095) 45(-19.6,-2.095) 46(-19.6,2.095) 47(-18.8,-2.095) 48(-18.8,2.095) 49(-18,-2.095) 50(-18,2.095) 51(-17.2,-2.095) 52(-17.2,2.095) 53(-16.4,-2.095) 54(-16.4,2.095) 55(-15.6,-2.095) 56(-15.6,2.095) 57(-14.8,-2.095) 58(-14.8,2.095) 59(-14,-2.095) 60(-14,2.095) 61(-13.2,-2.095) 62(-13.2,2.095) 63(-12.4,-2.095) 64(-12.4,2.095) 65(-8.4,-2.095) 66(-8.4,2.095) 67(-7.6,-2.095) 68(-7.6,2.095) 69(-6.8,-2.095) 70(-6.8,2.095) 71(-6,-2.095) 72(-6,2.095) 73(-5.2,-2.095) 74(-5.2,2.095) 75(-4.4,-2.095) 76(-4.4,2.095) 77(-3.6,-2.095) 78(-3.6,2.095) 79(-2.8,-2.095) 80(-2.8,2.095) 81(-2,-2.095) 82(-2,2.095) 83(-1.2,-2.095) 84(-1.2,2.095) 85(-0.4,-2.095) 86(-0.4,2.095) 87(0.4,-2.095) 88(0.4,2.095) 89(1.2,-2.095) 90(1.2,2.095) 91(2,-2.095) 92(2,2.095) 93(2.8,-2.095) 94(2.8,2.095) 95(3.6,-2.095) 96(3.6,2.095) 97(4.4,-2.095) 98(4.4,2.095) 99(5.2,-2.095) 100(5.2,2.095) 101(6,-2.095) 102(6,2.095) 103(6.8,-2.095) 104(6.8,2.095) 105(7.6,-2.095) 106(7.6,2.095) 107(8.4,-2.095) 108(8.4,2.095) 109(9.2,-2.095) 110(9.2,2.095) 111(10,-2.095) 112(10,2.095) 113(10.8,-2.095) 114(10.8,2.095) 115(11.6,-2.095) 116(11.6,2.095) 117(12.4,-2.095) 118(12.4,2.095) 119(13.2,-2.095) 120(13.2,2.095) 121(14,-2.095) 122(14,2.095) 123(14.8,-2.095) 124(14.8,2.095) 125(15.6,-2.095) 126(15.6,2.095) 127(16.4,-2.095) 128(16.4,2.095) 129(17.2,-2.095) 130(17.2,2.095) 131(18,-2.095) 132(18,2.095) 133(18.8,-2.095) 134(18.8,2.095) 135(19.6,-2.095) 136(19.6,2.095) 137(20.4,-2.095) 138(20.4,2.095) 139(21.2,-2.095) 140(21.2,2.095) 141(22,-2.095) 142(22,2.095) 143(22.8,-2.095) 144(22.8,2.095) 145(23.6,-2.095) 146(23.6,2.095) 147(24.4,-2.095) 148(24.4,2.095) 149(25.2,-2.095) 150(25.2,2.095) 151(26,-2.095) 152(26,2.095) 153(26.8,-2.095) 154(26.8,2.095) 155(27.6,-2.095) 156(27.6,2.095) 157(28.4,-2.095) 158(28.4,2.095) 159(29.2,-2.095) 160(29.2,2.095) 161(30,-2.095) 162(30,2.095) 163(30.8,-2.095) 164(30.8,2.095) 165(31.6,-2.095) 166(31.6,2.095) 167(32.4,-2.095) 168(32.4,2.095) 169(33.2,-2.095) 170(33.2,2.095) 171(34,-2.095) 172(34,2.095) 173(34.8,-2.095) 174(34.8,2.095) 175(35.6,-2.095) 176(35.6,2.095) 177(36.4,-2.095) 178(36.4,2.095) 179(37.2,-2.095) 180(37.2,2.095)
  round 2.54 hole 0.84: Un1(-41.05,0) Un4(41.05,0)
  round 1.27 hole 1.27: Un2(-38.7,-1.5) Un3(38.7,0)
F.SilkS:
  circle w0.254: c-37.2,-3.795 r0.25
  lines w0.254: -42.31,-0.868 -42.31,-2.641 -40.946,-4.005 -37.79,-4.005 -37.79,-3.305 37.79,-3.305 37.79,-4.005 42.31,-4.005 42.31,-0.868 ; -42.31,0.868 -42.31,4.005 -37.79,4.005 -37.79,3.305 37.79,3.305 37.79,4.005 42.31,4.005 42.31,0.868
Top Assembly:
  lines w0.254: -42.2,-2.595 -40.9,-3.895 -37.9,-3.895 -37.9,-3.195 37.9,-3.195 37.9,-3.895 42.2,-3.895 42.2,3.895 37.9,3.895 37.9,3.195 -37.9,3.195 -37.9,3.895 -42.2,3.895 -42.2,-2.595 ; -37.6,-3.895 -36.8,-3.895 -37.2,-3.255 -37.6,-3.895
  text "'.Designator'" at -4.047,-0.84 h1
Top Courtyard:
  lines w0.254: -42.83,-4.4 42.83,-4.4 42.83,4.4 -42.83,4.4 -42.83,-4.4
Top Designator:
  text ".Designator" at -7.618,-0.508 h1.52

## Samtec_HSEC8-190-03-X-DV-A_2x90_P0.8mm_Pol32_Socket_AlignmentPins [mm]
pads (182):
  rrect25% 0.5x1.2 smd: 1(-37.2,-2.095) 2(-37.2,2.095) 3(-36.4,-2.095) 4(-36.4,2.095) 5(-35.6,-2.095) 6(-35.6,2.095) 7(-34.8,-2.095) 8(-34.8,2.095) 9(-34,-2.095) 10(-34,2.095) 11(-33.2,-2.095) 12(-33.2,2.095) 13(-32.4,-2.095) 14(-32.4,2.095) 15(-31.6,-2.095) 16(-31.6,2.095) 17(-30.8,-2.095) 18(-30.8,2.095) 19(-30,-2.095) 20(-30,2.095) 21(-29.2,-2.095) 22(-29.2,2.095) 23(-28.4,-2.095) 24(-28.4,2.095) 25(-27.6,-2.095) 26(-27.6,2.095) 27(-26.8,-2.095) 28(-26.8,2.095) 29(-26,-2.095) 30(-26,2.095) 31(-25.2,-2.095) 32(-25.2,2.095) 33(-24.4,-2.095) 34(-24.4,2.095) 35(-23.6,-2.095) 36(-23.6,2.095) 37(-22.8,-2.095) 38(-22.8,2.095) 39(-22,-2.095) 40(-22,2.095) 41(-21.2,-2.095) 42(-21.2,2.095) 43(-20.4,-2.095) 44(-20.4,2.095) 45(-19.6,-2.095) 46(-19.6,2.095) 47(-18.8,-2.095) 48(-18.8,2.095) 49(-18,-2.095) 50(-18,2.095) 51(-17.2,-2.095) 52(-17.2,2.095) 53(-16.4,-2.095) 54(-16.4,2.095) 55(-15.6,-2.095) 56(-15.6,2.095) 57(-14.8,-2.095) 58(-14.8,2.095) 59(-14,-2.095) 60(-14,2.095) 61(-13.2,-2.095) 62(-13.2,2.095) 63(-12.4,-2.095) 64(-12.4,2.095) 65(-8.4,-2.095) 66(-8.4,2.095) 67(-7.6,-2.095) 68(-7.6,2.095) 69(-6.8,-2.095) 70(-6.8,2.095) 71(-6,-2.095) 72(-6,2.095) 73(-5.2,-2.095) 74(-5.2,2.095) 75(-4.4,-2.095) 76(-4.4,2.095) 77(-3.6,-2.095) 78(-3.6,2.095) 79(-2.8,-2.095) 80(-2.8,2.095) 81(-2,-2.095) 82(-2,2.095) 83(-1.2,-2.095) 84(-1.2,2.095) 85(-0.4,-2.095) 86(-0.4,2.095) 87(0.4,-2.095) 88(0.4,2.095) 89(1.2,-2.095) 90(1.2,2.095) 91(2,-2.095) 92(2,2.095) 93(2.8,-2.095) 94(2.8,2.095) 95(3.6,-2.095) 96(3.6,2.095) 97(4.4,-2.095) 98(4.4,2.095) 99(5.2,-2.095) 100(5.2,2.095) 101(6,-2.095) 102(6,2.095) 103(6.8,-2.095) 104(6.8,2.095) 105(7.6,-2.095) 106(7.6,2.095) 107(8.4,-2.095) 108(8.4,2.095) 109(9.2,-2.095) 110(9.2,2.095) 111(10,-2.095) 112(10,2.095) 113(10.8,-2.095) 114(10.8,2.095) 115(11.6,-2.095) 116(11.6,2.095) 117(12.4,-2.095) 118(12.4,2.095) 119(13.2,-2.095) 120(13.2,2.095) 121(14,-2.095) 122(14,2.095) 123(14.8,-2.095) 124(14.8,2.095) 125(15.6,-2.095) 126(15.6,2.095) 127(16.4,-2.095) 128(16.4,2.095) 129(17.2,-2.095) 130(17.2,2.095) 131(18,-2.095) 132(18,2.095) 133(18.8,-2.095) 134(18.8,2.095) 135(19.6,-2.095) 136(19.6,2.095) 137(20.4,-2.095) 138(20.4,2.095) 139(21.2,-2.095) 140(21.2,2.095) 141(22,-2.095) 142(22,2.095) 143(22.8,-2.095) 144(22.8,2.095) 145(23.6,-2.095) 146(23.6,2.095) 147(24.4,-2.095) 148(24.4,2.095) 149(25.2,-2.095) 150(25.2,2.095) 151(26,-2.095) 152(26,2.095) 153(26.8,-2.095) 154(26.8,2.095) 155(27.6,-2.095) 156(27.6,2.095) 157(28.4,-2.095) 158(28.4,2.095) 159(29.2,-2.095) 160(29.2,2.095) 161(30,-2.095) 162(30,2.095) 163(30.8,-2.095) 164(30.8,2.095) 165(31.6,-2.095) 166(31.6,2.095) 167(32.4,-2.095) 168(32.4,2.095) 169(33.2,-2.095) 170(33.2,2.095) 171(34,-2.095) 172(34,2.095) 173(34.8,-2.095) 174(34.8,2.095) 175(35.6,-2.095) 176(35.6,2.095) 177(36.4,-2.095) 178(36.4,2.095) 179(37.2,-2.095) 180(37.2,2.095)
  round 1.27 hole 1.27: Un1(-38.7,-1.5) Un2(38.7,0)
F.SilkS:
  circle w0.254: c-37.2,-3.795 r0.25
  lines w0.254: -40.01,-2.641 -38.646,-4.005 -37.79,-4.005 -37.79,-3.305 37.79,-3.305 37.79,-4.005 40.01,-4.005 40.01,4.005 37.79,4.005 37.79,3.305 -37.79,3.305 -37.79,4.005 -40.01,4.005 -40.01,-2.641
Top Assembly:
  lines w0.254: -39.9,-2.595 -38.6,-3.895 -37.9,-3.895 -37.9,-3.195 37.9,-3.195 37.9,-3.895 39.9,-3.895 39.9,3.895 37.9,3.895 37.9,3.195 -37.9,3.195 -37.9,3.895 -39.9,3.895 -39.9,-2.595 ; -37.6,-3.895 -36.8,-3.895 -37.2,-3.255 -37.6,-3.895
  text "'.Designator'" at -4.047,-0.84 h1
Top Courtyard:
  lines w0.254: -40.41,-4.4 40.41,-4.4 40.41,4.4 -40.41,4.4 -40.41,-4.4
Top Designator:
  text ".Designator" at -7.618,-0.508 h1.52

## Samtec_HSEC8-190-03-X-DV_2x90_P0.8mm_Pol32_Socket [mm]
pads (180):
  rrect25% 0.5x1.2 smd: 1(-37.2,-2.095) 2(-37.2,2.095) 3(-36.4,-2.095) 4(-36.4,2.095) 5(-35.6,-2.095) 6(-35.6,2.095) 7(-34.8,-2.095) 8(-34.8,2.095) 9(-34,-2.095) 10(-34,2.095) 11(-33.2,-2.095) 12(-33.2,2.095) 13(-32.4,-2.095) 14(-32.4,2.095) 15(-31.6,-2.095) 16(-31.6,2.095) 17(-30.8,-2.095) 18(-30.8,2.095) 19(-30,-2.095) 20(-30,2.095) 21(-29.2,-2.095) 22(-29.2,2.095) 23(-28.4,-2.095) 24(-28.4,2.095) 25(-27.6,-2.095) 26(-27.6,2.095) 27(-26.8,-2.095) 28(-26.8,2.095) 29(-26,-2.095) 30(-26,2.095) 31(-25.2,-2.095) 32(-25.2,2.095) 33(-24.4,-2.095) 34(-24.4,2.095) 35(-23.6,-2.095) 36(-23.6,2.095) 37(-22.8,-2.095) 38(-22.8,2.095) 39(-22,-2.095) 40(-22,2.095) 41(-21.2,-2.095) 42(-21.2,2.095) 43(-20.4,-2.095) 44(-20.4,2.095) 45(-19.6,-2.095) 46(-19.6,2.095) 47(-18.8,-2.095) 48(-18.8,2.095) 49(-18,-2.095) 50(-18,2.095) 51(-17.2,-2.095) 52(-17.2,2.095) 53(-16.4,-2.095) 54(-16.4,2.095) 55(-15.6,-2.095) 56(-15.6,2.095) 57(-14.8,-2.095) 58(-14.8,2.095) 59(-14,-2.095) 60(-14,2.095) 61(-13.2,-2.095) 62(-13.2,2.095) 63(-12.4,-2.095) 64(-12.4,2.095) 65(-8.4,-2.095) 66(-8.4,2.095) 67(-7.6,-2.095) 68(-7.6,2.095) 69(-6.8,-2.095) 70(-6.8,2.095) 71(-6,-2.095) 72(-6,2.095) 73(-5.2,-2.095) 74(-5.2,2.095) 75(-4.4,-2.095) 76(-4.4,2.095) 77(-3.6,-2.095) 78(-3.6,2.095) 79(-2.8,-2.095) 80(-2.8,2.095) 81(-2,-2.095) 82(-2,2.095) 83(-1.2,-2.095) 84(-1.2,2.095) 85(-0.4,-2.095) 86(-0.4,2.095) 87(0.4,-2.095) 88(0.4,2.095) 89(1.2,-2.095) 90(1.2,2.095) 91(2,-2.095) 92(2,2.095) 93(2.8,-2.095) 94(2.8,2.095) 95(3.6,-2.095) 96(3.6,2.095) 97(4.4,-2.095) 98(4.4,2.095) 99(5.2,-2.095) 100(5.2,2.095) 101(6,-2.095) 102(6,2.095) 103(6.8,-2.095) 104(6.8,2.095) 105(7.6,-2.095) 106(7.6,2.095) 107(8.4,-2.095) 108(8.4,2.095) 109(9.2,-2.095) 110(9.2,2.095) 111(10,-2.095) 112(10,2.095) 113(10.8,-2.095) 114(10.8,2.095) 115(11.6,-2.095) 116(11.6,2.095) 117(12.4,-2.095) 118(12.4,2.095) 119(13.2,-2.095) 120(13.2,2.095) 121(14,-2.095) 122(14,2.095) 123(14.8,-2.095) 124(14.8,2.095) 125(15.6,-2.095) 126(15.6,2.095) 127(16.4,-2.095) 128(16.4,2.095) 129(17.2,-2.095) 130(17.2,2.095) 131(18,-2.095) 132(18,2.095) 133(18.8,-2.095) 134(18.8,2.095) 135(19.6,-2.095) 136(19.6,2.095) 137(20.4,-2.095) 138(20.4,2.095) 139(21.2,-2.095) 140(21.2,2.095) 141(22,-2.095) 142(22,2.095) 143(22.8,-2.095) 144(22.8,2.095) 145(23.6,-2.095) 146(23.6,2.095) 147(24.4,-2.095) 148(24.4,2.095) 149(25.2,-2.095) 150(25.2,2.095) 151(26,-2.095) 152(26,2.095) 153(26.8,-2.095) 154(26.8,2.095) 155(27.6,-2.095) 156(27.6,2.095) 157(28.4,-2.095) 158(28.4,2.095) 159(29.2,-2.095) 160(29.2,2.095) 161(30,-2.095) 162(30,2.095) 163(30.8,-2.095) 164(30.8,2.095) 165(31.6,-2.095) 166(31.6,2.095) 167(32.4,-2.095) 168(32.4,2.095) 169(33.2,-2.095) 170(33.2,2.095) 171(34,-2.095) 172(34,2.095) 173(34.8,-2.095) 174(34.8,2.095) 175(35.6,-2.095) 176(35.6,2.095) 177(36.4,-2.095) 178(36.4,2.095) 179(37.2,-2.095) 180(37.2,2.095)
F.SilkS:
  circle w0.254: c-37.2,-3.795 r0.25
  lines w0.254: -40.01,-2.641 -38.646,-4.005 -37.79,-4.005 -37.79,-3.305 37.79,-3.305 37.79,-4.005 40.01,-4.005 40.01,4.005 37.79,4.005 37.79,3.305 -37.79,3.305 -37.79,4.005 -40.01,4.005 -40.01,-2.641
Top Assembly:
  lines w0.254: -39.9,-2.595 -38.6,-3.895 -37.9,-3.895 -37.9,-3.195 37.9,-3.195 37.9,-3.895 39.9,-3.895 39.9,3.895 37.9,3.895 37.9,3.195 -37.9,3.195 -37.9,3.895 -39.9,3.895 -39.9,-2.595 ; -37.6,-3.895 -36.8,-3.895 -37.2,-3.255 -37.6,-3.895
  text "'.Designator'" at -4.047,-0.84 h1
Top Courtyard:
  lines w0.254: -40.41,-4.4 40.41,-4.4 40.41,4.4 -40.41,4.4 -40.41,-4.4
Top Designator:
  text ".Designator" at -7.618,-0.508 h1.52

## Samtec_HSEC8-190-X-X-DV-BL_2x90_P0.8mm_Edge [mm]
pads (180):
  rect 0.55x2.8 smd: 1(-37.2,2.4) 3(-36.4,2.4) 5(-35.6,2.4) 7(-34.8,2.4) 9(-34,2.4) 11(-33.2,2.4) 13(-32.4,2.4) 15(-31.6,2.4) 17(-30.8,2.4) 19(-30,2.4) 21(-29.2,2.4) 23(-28.4,2.4) 25(-27.6,2.4) 27(-26.8,2.4) 29(-26,2.4) 31(-25.2,2.4) 33(-24.4,2.4) 35(-23.6,2.4) 37(-22.8,2.4) 39(-22,2.4) 41(-21.2,2.4) 43(-20.4,2.4) 45(-19.6,2.4) 47(-18.8,2.4) 49(-18,2.4) 51(-17.2,2.4) 53(-16.4,2.4) 55(-15.6,2.4) 57(-14.8,2.4) 59(-14,2.4) 61(-13.2,2.4) 63(-12.4,2.4) 65(-8.4,2.4) 67(-7.6,2.4) 69(-6.8,2.4) 71(-6,2.4) 73(-5.2,2.4) 75(-4.4,2.4) 77(-3.6,2.4) 79(-2.8,2.4) 81(-2,2.4) 83(-1.2,2.4) 85(-0.4,2.4) 87(0.4,2.4) 89(1.2,2.4) 91(2,2.4) 93(2.8,2.4) 95(3.6,2.4) 97(4.4,2.4) 99(5.2,2.4) 101(6,2.4) 103(6.8,2.4) 105(7.6,2.4) 107(8.4,2.4) 109(9.2,2.4) 111(10,2.4) 113(10.8,2.4) 115(11.6,2.4) 117(12.4,2.4) 119(13.2,2.4) 121(14,2.4) 123(14.8,2.4) 125(15.6,2.4) 127(16.4,2.4) 129(17.2,2.4) 131(18,2.4) 133(18.8,2.4) 135(19.6,2.4) 137(20.4,2.4) 139(21.2,2.4) 141(22,2.4) 143(22.8,2.4) 145(23.6,2.4) 147(24.4,2.4) 149(25.2,2.4) 151(26,2.4) 153(26.8,2.4) 155(27.6,2.4) 157(28.4,2.4) 159(29.2,2.4) 161(30,2.4) 163(30.8,2.4) 165(31.6,2.4) 167(32.4,2.4) 169(33.2,2.4) 171(34,2.4) 173(34.8,2.4) 175(35.6,2.4) 177(36.4,2.4) 179(37.2,2.4)
  rect 0.55x2.8 smd far side: 2(-37.2,2.4) 4(-36.4,2.4) 6(-35.6,2.4) 8(-34.8,2.4) 10(-34,2.4) 12(-33.2,2.4) 14(-32.4,2.4) 16(-31.6,2.4) 18(-30.8,2.4) 20(-30,2.4) 22(-29.2,2.4) 24(-28.4,2.4) 26(-27.6,2.4) 28(-26.8,2.4) 30(-26,2.4) 32(-25.2,2.4) 34(-24.4,2.4) 36(-23.6,2.4) 38(-22.8,2.4) 40(-22,2.4) 42(-21.2,2.4) 44(-20.4,2.4) 46(-19.6,2.4) 48(-18.8,2.4) 50(-18,2.4) 52(-17.2,2.4) 54(-16.4,2.4) 56(-15.6,2.4) 58(-14.8,2.4) 60(-14,2.4) 62(-13.2,2.4) 64(-12.4,2.4) 66(-8.4,2.4) 68(-7.6,2.4) 70(-6.8,2.4) 72(-6,2.4) 74(-5.2,2.4) 76(-4.4,2.4) 78(-3.6,2.4) 80(-2.8,2.4) 82(-2,2.4) 84(-1.2,2.4) 86(-0.4,2.4) 88(0.4,2.4) 90(1.2,2.4) 92(2,2.4) 94(2.8,2.4) 96(3.6,2.4) 98(4.4,2.4) 100(5.2,2.4) 102(6,2.4) 104(6.8,2.4) 106(7.6,2.4) 108(8.4,2.4) 110(9.2,2.4) 112(10,2.4) 114(10.8,2.4) 116(11.6,2.4) 118(12.4,2.4) 120(13.2,2.4) 122(14,2.4) 124(14.8,2.4) 126(15.6,2.4) 128(16.4,2.4) 130(17.2,2.4) 132(18,2.4) 134(18.8,2.4) 136(19.6,2.4) 138(20.4,2.4) 140(21.2,2.4) 142(22,2.4) 144(22.8,2.4) 146(23.6,2.4) 148(24.4,2.4) 150(25.2,2.4) 152(26,2.4) 154(26.8,2.4) 156(27.6,2.4) 158(28.4,2.4) 160(29.2,2.4) 162(30,2.4) 164(30.8,2.4) 166(31.6,2.4) 168(32.4,2.4) 170(33.2,2.4) 172(34,2.4) 174(34.8,2.4) 176(35.6,2.4) 178(36.4,2.4) 180(37.2,2.4)
F.SilkS:
  lines w0.254: -38.225,5.13 -36.955,6.4 38.225,6.4
  text "179" at 35.459,4.025 h0.75
  text "65" at -8.739,4.025 h0.75
  text "63" at -13.489,4.025 h0.75
  text "1" at -37.439,4.025 h0.75
B.SilkS:
  lines w0.254: -38.225,6.4 38.225,6.4
  text "180" at 37.459,4.025 h0.75
  text "66" at -7.329,4.025 h0.75
  text "64" at -12.043,4.025 h0.75
  text "2" at -36.8,4.025 h0.75
Top Assembly:
  lines w0.254: -38.225,0.88 38.225,0.88 ; -38.225,0 38.225,0 38.225,6.4 -36.955,6.4 -38.225,5.13 -38.225,0
  text "'.Designator'" at -4.047,1.7 h1
Bottom Assembly:
  lines w0.254: -38.225,0.88 38.225,0.88 ; -38.225,0 38.225,0 38.225,6.4 -38.225,6.4 -38.225,0
Top Courtyard:
  lines w0.254: -38.48,-0.25 38.48,-0.25 38.48,6.65 -38.48,6.65 -38.48,-0.25
Bottom Courtyard:
  lines w0.254: -38.48,-0.25 38.48,-0.25 38.48,6.65 -38.48,6.65 -38.48,-0.25
Top Designator:
  text ".Designator" at -7.618,2.485 h1.52
Board Shape:
  lines w0.254: -38.725,8.78 cw(c-39.725,8.78) -39.725,7.78 -42.325,7.78 ccw(c-42.325,7.38) -42.725,7.38 -42.725,6 -39.225,6 cw(c-39.225,5) -38.225,5 -38.225,0 -11.595,0 -11.595,5.2 cw(c-10.395,5.2) -9.195,5.2 -9.195,0 38.225,0 38.225,5 cw(c39.225,5) 39.225,6 42.725,6 42.725,7.38 ccw(c42.325,7.38) 42.325,7.78 39.725,7.78 cw(c39.725,8.78) 38.725,8.78
Cmts.User:
  lines w0.254: -38.225,-1.8 -35.725,-1.8
  text "mated PCB distance: 1.80 mm (ref)" at -35.63,-2.521 h0.75
  text "Chamfer 30 degree 0.45 mm" at -7.868,-0.21 h0.75

## Samtec_HSEC8-190-X-X-DV_2x90_P0.8mm_Edge [mm]
pads (180):
  rect 0.55x2.8 smd: 1(-37.2,2.4) 3(-36.4,2.4) 5(-35.6,2.4) 7(-34.8,2.4) 9(-34,2.4) 11(-33.2,2.4) 13(-32.4,2.4) 15(-31.6,2.4) 17(-30.8,2.4) 19(-30,2.4) 21(-29.2,2.4) 23(-28.4,2.4) 25(-27.6,2.4) 27(-26.8,2.4) 29(-26,2.4) 31(-25.2,2.4) 33(-24.4,2.4) 35(-23.6,2.4) 37(-22.8,2.4) 39(-22,2.4) 41(-21.2,2.4) 43(-20.4,2.4) 45(-19.6,2.4) 47(-18.8,2.4) 49(-18,2.4) 51(-17.2,2.4) 53(-16.4,2.4) 55(-15.6,2.4) 57(-14.8,2.4) 59(-14,2.4) 61(-13.2,2.4) 63(-12.4,2.4) 65(-8.4,2.4) 67(-7.6,2.4) 69(-6.8,2.4) 71(-6,2.4) 73(-5.2,2.4) 75(-4.4,2.4) 77(-3.6,2.4) 79(-2.8,2.4) 81(-2,2.4) 83(-1.2,2.4) 85(-0.4,2.4) 87(0.4,2.4) 89(1.2,2.4) 91(2,2.4) 93(2.8,2.4) 95(3.6,2.4) 97(4.4,2.4) 99(5.2,2.4) 101(6,2.4) 103(6.8,2.4) 105(7.6,2.4) 107(8.4,2.4) 109(9.2,2.4) 111(10,2.4) 113(10.8,2.4) 115(11.6,2.4) 117(12.4,2.4) 119(13.2,2.4) 121(14,2.4) 123(14.8,2.4) 125(15.6,2.4) 127(16.4,2.4) 129(17.2,2.4) 131(18,2.4) 133(18.8,2.4) 135(19.6,2.4) 137(20.4,2.4) 139(21.2,2.4) 141(22,2.4) 143(22.8,2.4) 145(23.6,2.4) 147(24.4,2.4) 149(25.2,2.4) 151(26,2.4) 153(26.8,2.4) 155(27.6,2.4) 157(28.4,2.4) 159(29.2,2.4) 161(30,2.4) 163(30.8,2.4) 165(31.6,2.4) 167(32.4,2.4) 169(33.2,2.4) 171(34,2.4) 173(34.8,2.4) 175(35.6,2.4) 177(36.4,2.4) 179(37.2,2.4)
  rect 0.55x2.8 smd far side: 2(-37.2,2.4) 4(-36.4,2.4) 6(-35.6,2.4) 8(-34.8,2.4) 10(-34,2.4) 12(-33.2,2.4) 14(-32.4,2.4) 16(-31.6,2.4) 18(-30.8,2.4) 20(-30,2.4) 22(-29.2,2.4) 24(-28.4,2.4) 26(-27.6,2.4) 28(-26.8,2.4) 30(-26,2.4) 32(-25.2,2.4) 34(-24.4,2.4) 36(-23.6,2.4) 38(-22.8,2.4) 40(-22,2.4) 42(-21.2,2.4) 44(-20.4,2.4) 46(-19.6,2.4) 48(-18.8,2.4) 50(-18,2.4) 52(-17.2,2.4) 54(-16.4,2.4) 56(-15.6,2.4) 58(-14.8,2.4) 60(-14,2.4) 62(-13.2,2.4) 64(-12.4,2.4) 66(-8.4,2.4) 68(-7.6,2.4) 70(-6.8,2.4) 72(-6,2.4) 74(-5.2,2.4) 76(-4.4,2.4) 78(-3.6,2.4) 80(-2.8,2.4) 82(-2,2.4) 84(-1.2,2.4) 86(-0.4,2.4) 88(0.4,2.4) 90(1.2,2.4) 92(2,2.4) 94(2.8,2.4) 96(3.6,2.4) 98(4.4,2.4) 100(5.2,2.4) 102(6,2.4) 104(6.8,2.4) 106(7.6,2.4) 108(8.4,2.4) 110(9.2,2.4) 112(10,2.4) 114(10.8,2.4) 116(11.6,2.4) 118(12.4,2.4) 120(13.2,2.4) 122(14,2.4) 124(14.8,2.4) 126(15.6,2.4) 128(16.4,2.4) 130(17.2,2.4) 132(18,2.4) 134(18.8,2.4) 136(19.6,2.4) 138(20.4,2.4) 140(21.2,2.4) 142(22,2.4) 144(22.8,2.4) 146(23.6,2.4) 148(24.4,2.4) 150(25.2,2.4) 152(26,2.4) 154(26.8,2.4) 156(27.6,2.4) 158(28.4,2.4) 160(29.2,2.4) 162(30,2.4) 164(30.8,2.4) 166(31.6,2.4) 168(32.4,2.4) 170(33.2,2.4) 172(34,2.4) 174(34.8,2.4) 176(35.6,2.4) 178(36.4,2.4) 180(37.2,2.4)
F.SilkS:
  lines w0.254: -38.225,5.13 -36.955,6.4 38.225,6.4
  text "179" at 35.459,4.025 h0.75
  text "65" at -8.739,4.025 h0.75
  text "63" at -13.489,4.025 h0.75
  text "1" at -37.439,4.025 h0.75
B.SilkS:
  lines w0.254: -38.225,6.4 38.225,6.4
  text "180" at 37.459,4.025 h0.75
  text "66" at -7.329,4.025 h0.75
  text "64" at -12.043,4.025 h0.75
  text "2" at -36.8,4.025 h0.75
Top Assembly:
  lines w0.254: -38.225,0.88 38.225,0.88 ; -38.225,0 38.225,0 38.225,6.4 -36.955,6.4 -38.225,5.13 -38.225,0
  text "'.Designator'" at -4.047,1.7 h1
Bottom Assembly:
  lines w0.254: -38.225,0.88 38.225,0.88 ; -38.225,0 38.225,0 38.225,6.4 -38.225,6.4 -38.225,0
Top Courtyard:
  lines w0.254: -38.48,-0.25 38.48,-0.25 38.48,6.65 -38.48,6.65 -38.48,-0.25
Bottom Courtyard:
  lines w0.254: -38.48,-0.25 38.48,-0.25 38.48,6.65 -38.48,6.65 -38.48,-0.25
Top Designator:
  text ".Designator" at -7.618,0.475 h1.52
Board Shape:
  lines w0.254: -38.225,5 -38.225,0 -11.595,0 -11.595,5.2 cw(c-10.395,5.2) -9.195,5.2 -9.195,0 38.225,0 38.225,5
Cmts.User:
  lines w0.254: -38.225,-3.69 -35.725,-3.69 ; -38.225,-2.05 -35.725,-2.05
  text "mated PCB distance: 3.69 mm (max)" at -35.63,-4.411 h0.75
  text "mated PCB distance: 2.05 mm (min)" at -35.63,-2.771 h0.75
  text "Chamfer 30 degree 0.45 mm" at -7.868,-0.21 h0.75

## Samtec_HSEC8-190-X-X-DV_2x90_P0.8mm_Wing_Edge [mm]
pads (180):
  rect 0.55x2.8 smd: 1(-37.2,2.4) 3(-36.4,2.4) 5(-35.6,2.4) 7(-34.8,2.4) 9(-34,2.4) 11(-33.2,2.4) 13(-32.4,2.4) 15(-31.6,2.4) 17(-30.8,2.4) 19(-30,2.4) 21(-29.2,2.4) 23(-28.4,2.4) 25(-27.6,2.4) 27(-26.8,2.4) 29(-26,2.4) 31(-25.2,2.4) 33(-24.4,2.4) 35(-23.6,2.4) 37(-22.8,2.4) 39(-22,2.4) 41(-21.2,2.4) 43(-20.4,2.4) 45(-19.6,2.4) 47(-18.8,2.4) 49(-18,2.4) 51(-17.2,2.4) 53(-16.4,2.4) 55(-15.6,2.4) 57(-14.8,2.4) 59(-14,2.4) 61(-13.2,2.4) 63(-12.4,2.4) 65(-8.4,2.4) 67(-7.6,2.4) 69(-6.8,2.4) 71(-6,2.4) 73(-5.2,2.4) 75(-4.4,2.4) 77(-3.6,2.4) 79(-2.8,2.4) 81(-2,2.4) 83(-1.2,2.4) 85(-0.4,2.4) 87(0.4,2.4) 89(1.2,2.4) 91(2,2.4) 93(2.8,2.4) 95(3.6,2.4) 97(4.4,2.4) 99(5.2,2.4) 101(6,2.4) 103(6.8,2.4) 105(7.6,2.4) 107(8.4,2.4) 109(9.2,2.4) 111(10,2.4) 113(10.8,2.4) 115(11.6,2.4) 117(12.4,2.4) 119(13.2,2.4) 121(14,2.4) 123(14.8,2.4) 125(15.6,2.4) 127(16.4,2.4) 129(17.2,2.4) 131(18,2.4) 133(18.8,2.4) 135(19.6,2.4) 137(20.4,2.4) 139(21.2,2.4) 141(22,2.4) 143(22.8,2.4) 145(23.6,2.4) 147(24.4,2.4) 149(25.2,2.4) 151(26,2.4) 153(26.8,2.4) 155(27.6,2.4) 157(28.4,2.4) 159(29.2,2.4) 161(30,2.4) 163(30.8,2.4) 165(31.6,2.4) 167(32.4,2.4) 169(33.2,2.4) 171(34,2.4) 173(34.8,2.4) 175(35.6,2.4) 177(36.4,2.4) 179(37.2,2.4)
  rect 0.55x2.8 smd far side: 2(-37.2,2.4) 4(-36.4,2.4) 6(-35.6,2.4) 8(-34.8,2.4) 10(-34,2.4) 12(-33.2,2.4) 14(-32.4,2.4) 16(-31.6,2.4) 18(-30.8,2.4) 20(-30,2.4) 22(-29.2,2.4) 24(-28.4,2.4) 26(-27.6,2.4) 28(-26.8,2.4) 30(-26,2.4) 32(-25.2,2.4) 34(-24.4,2.4) 36(-23.6,2.4) 38(-22.8,2.4) 40(-22,2.4) 42(-21.2,2.4) 44(-20.4,2.4) 46(-19.6,2.4) 48(-18.8,2.4) 50(-18,2.4) 52(-17.2,2.4) 54(-16.4,2.4) 56(-15.6,2.4) 58(-14.8,2.4) 60(-14,2.4) 62(-13.2,2.4) 64(-12.4,2.4) 66(-8.4,2.4) 68(-7.6,2.4) 70(-6.8,2.4) 72(-6,2.4) 74(-5.2,2.4) 76(-4.4,2.4) 78(-3.6,2.4) 80(-2.8,2.4) 82(-2,2.4) 84(-1.2,2.4) 86(-0.4,2.4) 88(0.4,2.4) 90(1.2,2.4) 92(2,2.4) 94(2.8,2.4) 96(3.6,2.4) 98(4.4,2.4) 100(5.2,2.4) 102(6,2.4) 104(6.8,2.4) 106(7.6,2.4) 108(8.4,2.4) 110(9.2,2.4) 112(10,2.4) 114(10.8,2.4) 116(11.6,2.4) 118(12.4,2.4) 120(13.2,2.4) 122(14,2.4) 124(14.8,2.4) 126(15.6,2.4) 128(16.4,2.4) 130(17.2,2.4) 132(18,2.4) 134(18.8,2.4) 136(19.6,2.4) 138(20.4,2.4) 140(21.2,2.4) 142(22,2.4) 144(22.8,2.4) 146(23.6,2.4) 148(24.4,2.4) 150(25.2,2.4) 152(26,2.4) 154(26.8,2.4) 156(27.6,2.4) 158(28.4,2.4) 160(29.2,2.4) 162(30,2.4) 164(30.8,2.4) 166(31.6,2.4) 168(32.4,2.4) 170(33.2,2.4) 172(34,2.4) 174(34.8,2.4) 176(35.6,2.4) 178(36.4,2.4) 180(37.2,2.4)
F.SilkS:
  lines w0.254: -38.225,5.13 -36.955,6.4 38.225,6.4
  text "179" at 35.459,4.025 h0.75
  text "65" at -8.739,4.025 h0.75
  text "63" at -13.489,4.025 h0.75
  text "1" at -37.439,4.025 h0.75
B.SilkS:
  lines w0.254: -38.225,6.4 38.225,6.4
  text "180" at 37.459,4.025 h0.75
  text "66" at -7.329,4.025 h0.75
  text "64" at -12.043,4.025 h0.75
  text "2" at -36.8,4.025 h0.75
Top Assembly:
  lines w0.254: -38.225,0.88 38.225,0.88 ; -38.225,0 38.225,0 38.225,6.4 -36.955,6.4 -38.225,5.13 -38.225,0
  text "'.Designator'" at -4.047,1.7 h1
Bottom Assembly:
  lines w0.254: -38.225,0.88 38.225,0.88 ; -38.225,0 38.225,0 38.225,6.4 -38.225,6.4 -38.225,0
Top Courtyard:
  lines w0.254: -38.48,-0.25 38.48,-0.25 38.48,6.65 -38.48,6.65 -38.48,-0.25
Bottom Courtyard:
  lines w0.254: -38.48,-0.25 38.48,-0.25 38.48,6.65 -38.48,6.65 -38.48,-0.25
Top Designator:
  text ".Designator" at -7.618,0.475 h1.52
Board Shape:
  lines w0.254: -39.225,6 cw(c-39.225,5) -38.225,5 -38.225,0 -11.595,0 -11.595,5.2 cw(c-10.395,5.2) -9.195,5.2 -9.195,0 38.225,0 38.225,5 cw(c39.225,5) 39.225,6
Cmts.User:
  lines w0.254: -38.225,-3.69 -35.725,-3.69 ; -38.225,-2.05 -35.725,-2.05
  text "mated PCB distance: 3.69 mm (max)" at -35.63,-4.411 h0.75
  text "mated PCB distance: 2.05 mm (min)" at -35.63,-2.771 h0.75
  text "Chamfer 30 degree 0.45 mm" at -7.868,-0.21 h0.75

## Samtec_HSEC8-1100-01-X-DV-A-BL_2x100_P0.8mm_Pol32_Socket_WeldTabs_BoardLocks [mm]
pads (204):
  rrect25% 0.5x1.2 smd: 1(-41.2,-1.7) 2(-41.2,1.7) 3(-40.4,-1.7) 4(-40.4,1.7) 5(-39.6,-1.7) 6(-39.6,1.7) 7(-38.8,-1.7) 8(-38.8,1.7) 9(-38,-1.7) 10(-38,1.7) 11(-37.2,-1.7) 12(-37.2,1.7) 13(-36.4,-1.7) 14(-36.4,1.7) 15(-35.6,-1.7) 16(-35.6,1.7) 17(-34.8,-1.7) 18(-34.8,1.7) 19(-34,-1.7) 20(-34,1.7) 21(-33.2,-1.7) 22(-33.2,1.7) 23(-32.4,-1.7) 24(-32.4,1.7) 25(-31.6,-1.7) 26(-31.6,1.7) 27(-30.8,-1.7) 28(-30.8,1.7) 29(-30,-1.7) 30(-30,1.7) 31(-29.2,-1.7) 32(-29.2,1.7) 33(-28.4,-1.7) 34(-28.4,1.7) 35(-27.6,-1.7) 36(-27.6,1.7) 37(-26.8,-1.7) 38(-26.8,1.7) 39(-26,-1.7) 40(-26,1.7) 41(-25.2,-1.7) 42(-25.2,1.7) 43(-24.4,-1.7) 44(-24.4,1.7) 45(-23.6,-1.7) 46(-23.6,1.7) 47(-22.8,-1.7) 48(-22.8,1.7) 49(-22,-1.7) 50(-22,1.7) 51(-21.2,-1.7) 52(-21.2,1.7) 53(-20.4,-1.7) 54(-20.4,1.7) 55(-19.6,-1.7) 56(-19.6,1.7) 57(-18.8,-1.7) 58(-18.8,1.7) 59(-18,-1.7) 60(-18,1.7) 61(-17.2,-1.7) 62(-17.2,1.7) 63(-16.4,-1.7) 64(-16.4,1.7) 65(-12.4,-1.7) 66(-12.4,1.7) 67(-11.6,-1.7) 68(-11.6,1.7) 69(-10.8,-1.7) 70(-10.8,1.7) 71(-10,-1.7) 72(-10,1.7) 73(-9.2,-1.7) 74(-9.2,1.7) 75(-8.4,-1.7) 76(-8.4,1.7) 77(-7.6,-1.7) 78(-7.6,1.7) 79(-6.8,-1.7) 80(-6.8,1.7) 81(-6,-1.7) 82(-6,1.7) 83(-5.2,-1.7) 84(-5.2,1.7) 85(-4.4,-1.7) 86(-4.4,1.7) 87(-3.6,-1.7) 88(-3.6,1.7) 89(-2.8,-1.7) 90(-2.8,1.7) 91(-2,-1.7) 92(-2,1.7) 93(-1.2,-1.7) 94(-1.2,1.7) 95(-0.4,-1.7) 96(-0.4,1.7) 97(0.4,-1.7) 98(0.4,1.7) 99(1.2,-1.7) 100(1.2,1.7) 101(2,-1.7) 102(2,1.7) 103(2.8,-1.7) 104(2.8,1.7) 105(3.6,-1.7) 106(3.6,1.7) 107(4.4,-1.7) 108(4.4,1.7) 109(5.2,-1.7) 110(5.2,1.7) 111(6,-1.7) 112(6,1.7) 113(6.8,-1.7) 114(6.8,1.7) 115(7.6,-1.7) 116(7.6,1.7) 117(8.4,-1.7) 118(8.4,1.7) 119(9.2,-1.7) 120(9.2,1.7) 121(10,-1.7) 122(10,1.7) 123(10.8,-1.7) 124(10.8,1.7) 125(11.6,-1.7) 126(11.6,1.7) 127(12.4,-1.7) 128(12.4,1.7) 129(13.2,-1.7) 130(13.2,1.7) 131(14,-1.7) 132(14,1.7) 133(14.8,-1.7) 134(14.8,1.7) 135(15.6,-1.7) 136(15.6,1.7) 137(16.4,-1.7) 138(16.4,1.7) 139(17.2,-1.7) 140(17.2,1.7) 141(18,-1.7) 142(18,1.7) 143(18.8,-1.7) 144(18.8,1.7) 145(19.6,-1.7) 146(19.6,1.7) 147(20.4,-1.7) 148(20.4,1.7) 149(21.2,-1.7) 150(21.2,1.7) 151(22,-1.7) 152(22,1.7) 153(22.8,-1.7) 154(22.8,1.7) 155(23.6,-1.7) 156(23.6,1.7) 157(24.4,-1.7) 158(24.4,1.7) 159(25.2,-1.7) 160(25.2,1.7) 161(26,-1.7) 162(26,1.7) 163(26.8,-1.7) 164(26.8,1.7) 165(27.6,-1.7) 166(27.6,1.7) 167(28.4,-1.7) 168(28.4,1.7) 169(29.2,-1.7) 170(29.2,1.7) 171(30,-1.7) 172(30,1.7) 173(30.8,-1.7) 174(30.8,1.7) 175(31.6,-1.7) 176(31.6,1.7) 177(32.4,-1.7) 178(32.4,1.7) 179(33.2,-1.7) 180(33.2,1.7) 181(34,-1.7) 182(34,1.7) 183(34.8,-1.7) 184(34.8,1.7) 185(35.6,-1.7) 186(35.6,1.7) 187(36.4,-1.7) 188(36.4,1.7) 189(37.2,-1.7) 190(37.2,1.7) 191(38,-1.7) 192(38,1.7) 193(38.8,-1.7) 194(38.8,1.7) 195(39.6,-1.7) 196(39.6,1.7) 197(40.4,-1.7) 198(40.4,1.7) 199(41.2,-1.7) 200(41.2,1.7)
  round 2.54 hole 0.84: Un1(-45.05,0) Un4(45.05,0)
  round 1.27 hole 1.27: Un2(-42.7,-1.5) Un3(42.7,0)
F.SilkS:
  circle w0.254: c-41.2,-3.4 r0.25
  lines w0.254: -49.635,-2.246 -48.271,-3.61 -41.79,-3.61 -41.79,-2.91 41.79,-2.91 41.79,-3.61 49.635,-3.61 49.635,3.61 41.79,3.61 41.79,2.91 -41.79,2.91 -41.79,3.61 -49.635,3.61 -49.635,-2.246
Top Assembly:
  lines w0.254: -49.525,-2.2 -48.225,-3.5 -41.9,-3.5 -41.9,-2.8 41.9,-2.8 41.9,-3.5 49.525,-3.5 49.525,3.5 41.9,3.5 41.9,2.8 -41.9,2.8 -41.9,3.5 -49.525,3.5 -49.525,-2.2 ; -41.6,-3.5 -40.8,-3.5 -41.2,-2.86 -41.6,-3.5
  text "'.Designator'" at -4.047,-0.84 h1
Top Courtyard:
  lines w0.254: -50.03,-4 50.03,-4 50.03,4 -50.03,4 -50.03,-4
Top Designator:
  text ".Designator" at -7.618,-0.508 h1.52